# Altium schematic symbol library RS-25.Schlib: 1 symbol
Pins are listed as number, name and electrical type; pins without a type are passive.

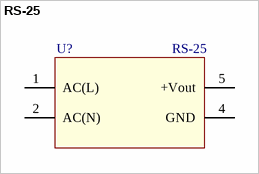
[diagram p0: symbol RS-25]

## RS-25
designator U?
Mean Well 25W AC-DC; Наименование: RS-25-5; Назначение: AC-DC
footprint RS-25 VERT (MeanWell AC-DC 25W)
pins: 1 AC(L) (oc), 2 AC(N) (oc), 4 GND (oc), 5 +Vout (oc)